# EAGLE library part DIL48 (library ic-package)
Dual In Line
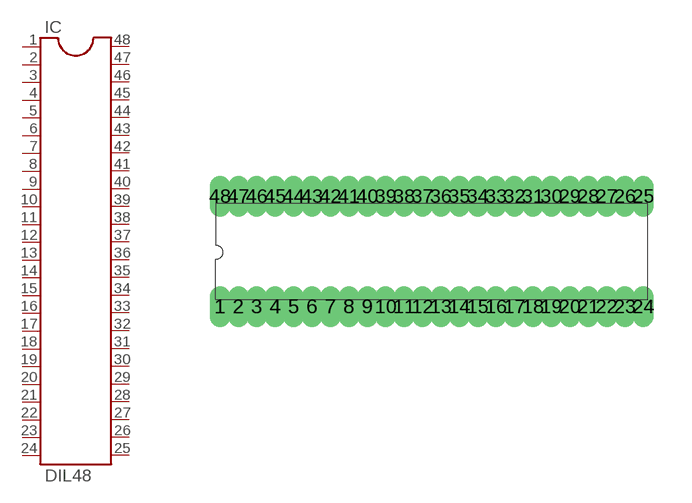
[diagram p16: symbol with the pads of DIL48; footprint DIL48]

Designator prefix IC

## DIL48  [DIL48]
1  1  pas
2  2  pas
3  3  pas
4  4  pas
5  5  pas
6  6  pas
7  7  pas
8  8  pas
9  9  pas
10  10  pas
11  11  pas
12  12  pas
13  13  pas
14  14  pas
15  15  pas
16  16  pas
17  17  pas
18  18  pas
19  19  pas
20  20  pas
21  21  pas
22  22  pas
23  23  pas
24  24  pas
25  25  pas
26  26  pas
27  27  pas
28  28  pas
29  29  pas
30  30  pas
31  31  pas
32  32  pas
33  33  pas
34  34  pas
35  35  pas
36  36  pas
37  37  pas
38  38  pas
39  39  pas
40  40  pas
41  41  pas
42  42  pas
43  43  pas
44  44  pas
45  45  pas
46  46  pas
47  47  pas
48  48  pas

## Footprint DIL48 (pad centres in mm)
Dual In Line Package
drill 0.203 long: 1 -7.303,-1.905; 2 -6.668,-1.905; 3 -6.032,-1.905; 4 -5.397,-1.905; 5 -4.763,-1.905; 6 -4.128,-1.905; 7 -3.493,-1.905; 8 -2.857,-1.905; 9 -2.223,-1.905; 10 -1.587,-1.905; 11 -0.953,-1.905; 12 -0.318,-1.905; 13 0.318,-1.905; 14 0.953,-1.905; 15 1.587,-1.905; 16 2.223,-1.905; 17 2.857,-1.905; 18 3.493,-1.905; 19 4.128,-1.905; 20 4.763,-1.905; 21 5.397,-1.905; 22 6.032,-1.905; 23 6.668,-1.905; 24 7.303,-1.905; 25 7.303,1.905; 26 6.668,1.905; 27 6.032,1.905; 28 5.397,1.905; 29 4.763,1.905; 30 4.128,1.905; 31 3.493,1.905; 32 2.857,1.905; 33 2.223,1.905; 34 1.587,1.905; 35 0.953,1.905; 36 0.318,1.905; 37 -0.318,1.905; 38 -0.953,1.905; 39 -1.587,1.905; 40 -2.223,1.905; 41 -2.857,1.905; 42 -3.493,1.905; 43 -4.128,1.905; 44 -4.763,1.905; 45 -5.397,1.905; 46 -6.032,1.905; 47 -6.668,1.905; 48 -7.303,1.905